# Altium footprint library PCB - SWITCH - PANASONIC EVQP2.PcbLib: 1 footprints
Each footprint in its own frame and in the unit in brackets; x right, y up, seen from the top. Pads: shape width x height; smd on the part's side, far side on the other; paste and mask are expansions set on the pad; w line width, h text height; cw(c..) or ccw(c..) is an arc to the next point about the centre after c.
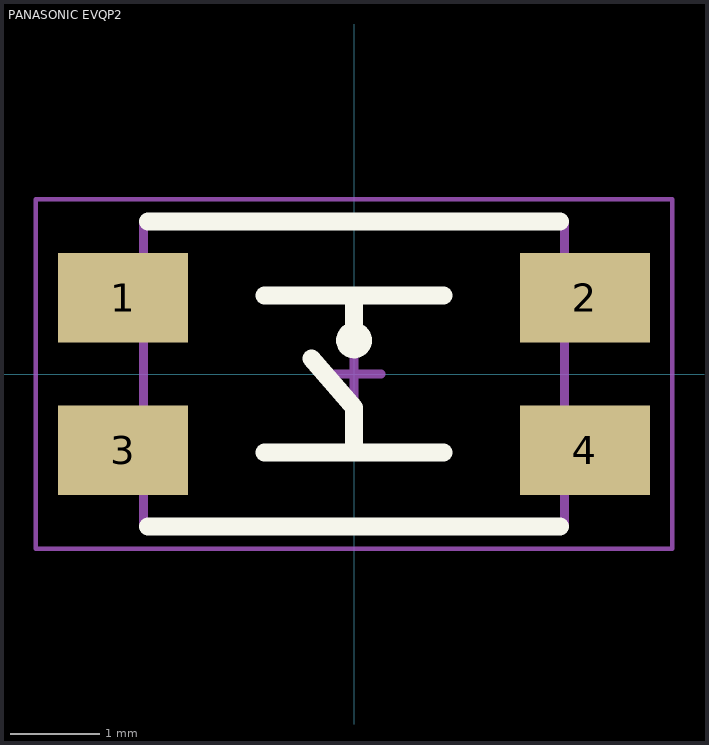
[diagram p0: the footprint, top view; thin cyan lines are the x and y axes]

## PANASONIC EVQP2 [mm] "T-Switch. 4-leads, body 4.7x3.5mm, Panasonic EVQ-P2202M"
height 2.7
pads (4):
  rect 1.45x1 smd mask+0.1: 1(-2.575,0.85) 2(2.575,0.85) 3(-2.575,-0.85) 4(2.575,-0.85)
Top Overlay:
  circle w0.2: c0,0.375 r0.1
  lines w0.2: -2.3,-1.7 2.3,-1.7 ; -2.3,1.7 2.3,1.7 ; -1,-0.875 1,-0.875 ; -1,0.875 1,0.875 ; -0.475,0.175 0,-0.375 0,-0.875 ; 0,0.375 0,0.875
Mechanical 13:
  lines w0.1: -2.35,-1.7 2.35,-1.7 2.35,1.7 -2.35,1.7 -2.35,-1.7
Mechanical 15 (Mech15):
  lines w0.05: -3.55,-1.95 3.55,-1.95 3.55,1.95 -3.55,1.95 -3.55,-1.95
  lines w0.1: -0.3,0 0.3,0 ; 0,-0.3 0,0.3
3D body "Panasonic - EVQP2.step": height 2.1, standoff 0, extent -2.75,-1.75 2.75,1.75